# EAGLE library part OSSC_DIY_AUDIO_OVERLAY (library OSSC_HDMI_Audio)
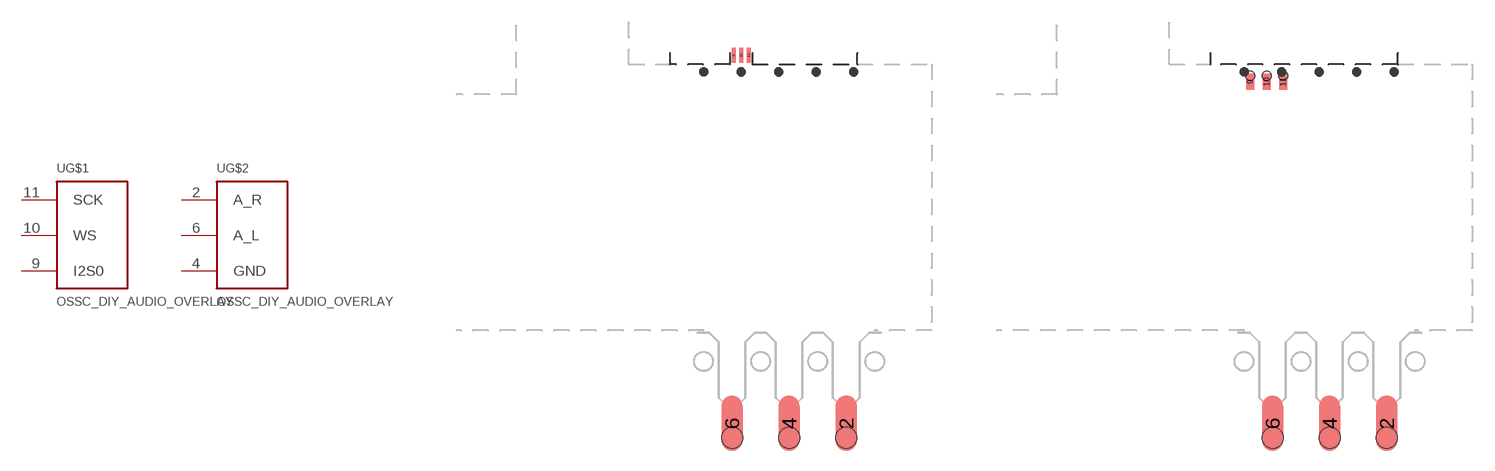
[diagram p5: symbol with the pads of OSSC_OVERLAY_V1.3; footprints OSSC_OVERLAY_V1.3, OSSC_OVERLAY_V1.5]

Designator prefix -; gates G$1=IT6613E_I2S0_2 G$2=SCART_AUDIO_GND

## OSSC_DIY_AUDIO_OVERLAYDIY-V1.3  [OSSC_OVERLAY_V1.3]
2  G$2:A_R
4  G$2:GND
6  G$2:A_L
9  G$1:I2S0
10  G$1:WS
11  G$1:SCK

## OSSC_DIY_AUDIO_OVERLAYDIY-V1.5  [OSSC_OVERLAY_V1.5]
Pads as for OSSC_OVERLAY_V1.3

## Footprint OSSC_OVERLAY_V1.3 (pad centres in mm)
smd 1.397 x 3.683: 2 3.81,0.953; 4 0,0.953; 6 -3.81,0.953
smd 0.246 x 1: 9 -3.7,25.5; 10 -3.2,25.5; 11 -2.7,25.5
hole 1.4 at -3.81,0
hole 1.4 at 0,0
hole 1.4 at 3.81,0

## Footprint OSSC_OVERLAY_V1.5 (pad centres in mm)
smd 1.397 x 3.683: 2 3.81,0.953; 4 0,0.953; 6 -3.81,0.953
smd 0.55 x 1.05: 9 -5.3,23.75; 10 -4.2,23.75; 11 -3.1,23.75
hole 1.4 at -3.81,0
hole 1.4 at 0,0
hole 1.4 at 3.81,0
hole 0.6 at -3.1,24.13
hole 0.6 at -4.2,24.13
hole 0.6 at -5.3,24.13